# EAGLE library part DISPLAY_LCD_NOKIA5110 (library custom)
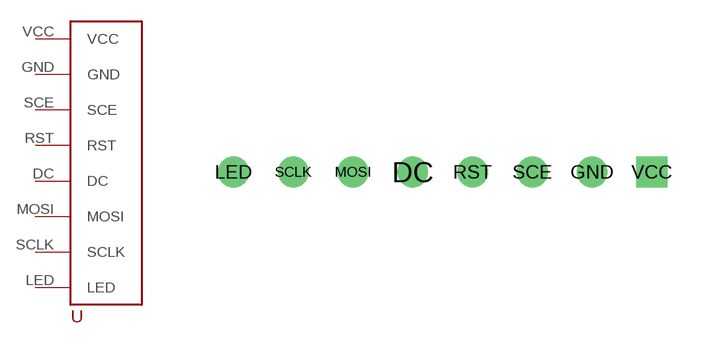
[diagram p19: symbol with the pads of DISPLAY_LCD_NOKIA5110_PCB; footprint DISPLAY_LCD_NOKIA5110_PCB]

Designator prefix -

## DISPLAY_LCD_NOKIA5110  [DISPLAY_LCD_NOKIA5110_PCB]
DC  DC
GND  GND
LED  LED
MOSI  MOSI
RST  RST
SCE  SCE
SCLK  SCLK
VCC  VCC

## Footprint DISPLAY_LCD_NOKIA5110_PCB (pad centres in mm)
drill 0.8 round: DC -1.27,0; GND 6.35,0; LED -8.89,0; MOSI -3.81,0; RST 1.27,0; SCE 3.81,0; SCLK -6.35,0
drill 0.8 square: VCC 8.89,0